# EAGLE library part RPI_CM3 (library mouser)
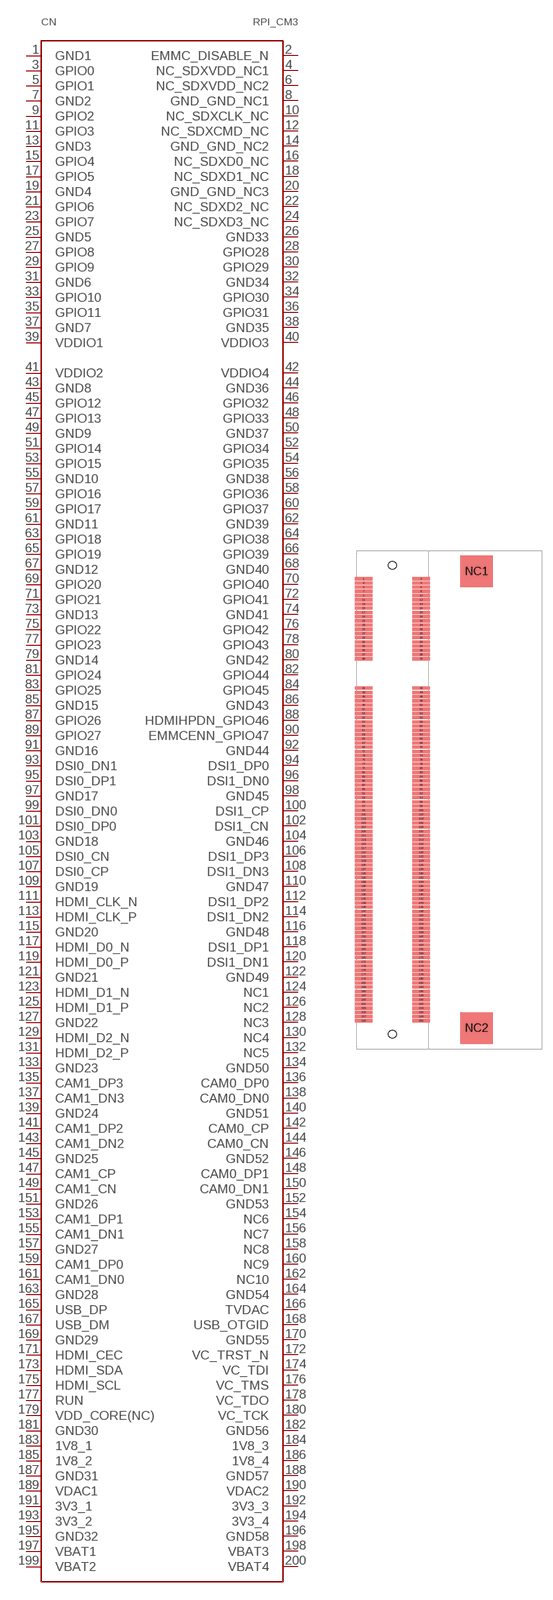
[diagram p0: symbol with the pads of DIMMSO_200PIN; footprint DIMMSO_200PIN]

Designator prefix CN

## RPI_CM3  [DIMMSO_200PIN]
1  GND1
2  EMMC_DISABLE_N
3  GPIO0
4  NC_SDXVDD_NC1
5  GPIO1
6  NC_SDXVDD_NC2
7  GND2
8  GND_GND_NC1
9  GPIO2
10  NC_SDXCLK_NC
11  GPIO3
12  NC_SDXCMD_NC
13  GND3
14  GND_GND_NC2
15  GPIO4
16  NC_SDXD0_NC
17  GPIO5
18  NC_SDXD1_NC
19  GND4
20  GND_GND_NC3
21  GPIO6
22  NC_SDXD2_NC
23  GPIO7
24  NC_SDXD3_NC
25  GND5
26  GND33
27  GPIO8
28  GPIO28
29  GPIO9
30  GPIO29
31  GND6
32  GND34
33  GPIO10
34  GPIO30
35  GPIO11
36  GPIO31
37  GND7
38  GND35
39  VDDIO1
40  VDDIO3
41  VDDIO2
42  VDDIO4
43  GND8
44  GND36
45  GPIO12
46  GPIO32
47  GPIO13
48  GPIO33
49  GND9
50  GND37
51  GPIO14
52  GPIO34
53  GPIO15
54  GPIO35
55  GND10
56  GND38
57  GPIO16
58  GPIO36
59  GPIO17
60  GPIO37
61  GND11
62  GND39
63  GPIO18
64  GPIO38
65  GPIO19
66  GPIO39
67  GND12
68  GND40
69  GPIO20
70  GPIO40
71  GPIO21
72  GPIO41
73  GND13
74  GND41
75  GPIO22
76  GPIO42
77  GPIO23
78  GPIO43
79  GND14
80  GND42
81  GPIO24
82  GPIO44
83  GPIO25
84  GPIO45
85  GND15
86  GND43
87  GPIO26
88  HDMIHPDN_GPIO46
89  GPIO27
90  EMMCENN_GPIO47
91  GND16
92  GND44
93  DSI0_DN1
94  DSI1_DP0
95  DSI0_DP1
96  DSI1_DN0
97  GND17
98  GND45
99  DSI0_DN0
100  DSI1_CP
101  DSI0_DP0
102  DSI1_CN
103  GND18
104  GND46
105  DSI0_CN
106  DSI1_DP3
107  DSI0_CP
108  DSI1_DN3
109  GND19
110  GND47
111  HDMI_CLK_N
112  DSI1_DP2
113  HDMI_CLK_P
114  DSI1_DN2
115  GND20
116  GND48
117  HDMI_D0_N
118  DSI1_DP1
119  HDMI_D0_P
120  DSI1_DN1
121  GND21
122  GND49
123  HDMI_D1_N
124  NC1  nc
125  HDMI_D1_P
126  NC2  nc
127  GND22
128  NC3  nc
129  HDMI_D2_N
130  NC4  nc
131  HDMI_D2_P
132  NC5  nc
133  GND23
134  GND50
135  CAM1_DP3
136  CAM0_DP0
137  CAM1_DN3
138  CAM0_DN0
139  GND24
140  GND51
141  CAM1_DP2
142  CAM0_CP
143  CAM1_DN2
144  CAM0_CN
145  GND25
146  GND52
147  CAM1_CP
148  CAM0_DP1
149  CAM1_CN
150  CAM0_DN1
151  GND26
152  GND53
153  CAM1_DP1
154  NC6  nc
155  CAM1_DN1
156  NC7  nc
157  GND27
158  NC8  nc
159  CAM1_DP0
160  NC9  nc
161  CAM1_DN0
162  NC10  nc
163  GND28
164  GND54
165  USB_DP
166  TVDAC
167  USB_DM
168  USB_OTGID
169  GND29
170  GND55
171  HDMI_CEC
172  VC_TRST_N
173  HDMI_SDA
174  VC_TDI
175  HDMI_SCL
176  VC_TMS
177  RUN
178  VC_TDO
179  VDD_CORE(NC)  nc
180  VC_TCK
181  GND30
182  GND56
183  1V8_1
184  1V8_3
185  1V8_2
186  1V8_4
187  GND31
188  GND57
189  VDAC1
190  VDAC2
191  3V3_1
192  3V3_3
193  3V3_2
194  3V3_4
195  GND32
196  GND58
197  VBAT1
198  VBAT3
199  VBAT2
200  VBAT4

## Footprint DIMMSO_200PIN (pad centres in mm)
smd 2.55 x 0.45: 1 -4.1,31.5; 2 4.1,31.5; 3 -4.1,30.9; 4 4.1,30.9; 5 -4.1,30.3; 6 4.1,30.3; 7 -4.1,29.7; 8 4.1,29.7; 9 -4.1,29.1; 10 4.1,29.1; 11 -4.1,28.5; 12 4.1,28.5; 13 -4.1,27.9; 14 4.1,27.9; 15 -4.1,27.3; 16 4.1,27.3; 17 -4.1,26.7; 18 4.1,26.7; 19 -4.1,26.1; 20 4.1,26.1; 21 -4.1,25.5; 22 4.1,25.5; 23 -4.1,24.9; 24 4.1,24.9; 25 -4.1,24.3; 26 4.1,24.3; 27 -4.1,23.7; 28 4.1,23.7; 29 -4.1,23.1; 30 4.1,23.1; 31 -4.1,22.5; 32 4.1,22.5; 33 -4.1,21.9; 34 4.1,21.9; 35 -4.1,21.3; 36 4.1,21.3; 37 -4.1,20.7; 38 4.1,20.7; 39 -4.1,20.1; 40 4.1,20.1; 41 -4.1,15.9; 42 4.1,15.9; 43 -4.1,15.3; 44 4.1,15.3; 45 -4.1,14.7; 46 4.1,14.7; 47 -4.1,14.1; 48 4.1,14.1; 49 -4.1,13.5; 50 4.1,13.5; 51 -4.1,12.9; 52 4.1,12.9; 53 -4.1,12.3; 54 4.1,12.3; 55 -4.1,11.7; 56 4.1,11.7; 57 -4.1,11.1; 58 4.1,11.1; 59 -4.1,10.5; 60 4.1,10.5; 61 -4.1,9.9; 62 4.1,9.9; 63 -4.1,9.3; 64 4.1,9.3; 65 -4.1,8.7; 66 4.1,8.7; 67 -4.1,8.1; 68 4.1,8.1; 69 -4.1,7.5; 70 4.1,7.5; 71 -4.1,6.9; 72 4.1,6.9; 73 -4.1,6.3; 74 4.1,6.3; 75 -4.1,5.7; 76 4.1,5.7; 77 -4.1,5.1; 78 4.1,5.1; 79 -4.1,4.5; 80 4.1,4.5; 81 -4.1,3.9; 82 4.1,3.9; 83 -4.1,3.3; 84 4.1,3.3; 85 -4.1,2.7; 86 4.1,2.7; 87 -4.1,2.1; 88 4.1,2.1; 89 -4.1,1.5; 90 4.1,1.5; 91 -4.1,0.9; 92 4.1,0.9; 93 -4.1,0.3; 94 4.1,0.3; 95 -4.1,-0.3; 96 4.1,-0.3; 97 -4.1,-0.9; 98 4.1,-0.9; 99 -4.1,-1.5; 100 4.1,-1.5; 101 -4.1,-2.1; 102 4.1,-2.1; 103 -4.1,-2.7; 104 4.1,-2.7; 105 -4.1,-3.3; 106 4.1,-3.3; 107 -4.1,-3.9; 108 4.1,-3.9; 109 -4.1,-4.5; 110 4.1,-4.5; 111 -4.1,-5.1; 112 4.1,-5.1; 113 -4.1,-5.7; 114 4.1,-5.7; 115 -4.1,-6.3; 116 4.1,-6.3; 117 -4.1,-6.9; 118 4.1,-6.9; 119 -4.1,-7.5; 120 4.1,-7.5; 121 -4.1,-8.1; 122 4.1,-8.1; 123 -4.1,-8.7; 124 4.1,-8.7; 125 -4.1,-9.3; 126 4.1,-9.3; 127 -4.1,-9.9; 128 4.1,-9.9; 129 -4.1,-10.5; 130 4.1,-10.5; 131 -4.1,-11.1; 132 4.1,-11.1; 133 -4.1,-11.7; 134 4.1,-11.7; 135 -4.1,-12.3; 136 4.1,-12.3; 137 -4.1,-12.9; 138 4.1,-12.9; 139 -4.1,-13.5; 140 4.1,-13.5; 141 -4.1,-14.1; 142 4.1,-14.1; 143 -4.1,-14.7; 144 4.1,-14.7; 145 -4.1,-15.3; 146 4.1,-15.3; 147 -4.1,-15.9; 148 4.1,-15.9; 149 -4.1,-16.5; 150 4.1,-16.5; 151 -4.1,-17.1; 152 4.1,-17.1; 153 -4.1,-17.7; 154 4.1,-17.7; 155 -4.1,-18.3; 156 4.1,-18.3; 157 -4.1,-18.9; 158 4.1,-18.9; 159 -4.1,-19.5; 160 4.1,-19.5; 161 -4.1,-20.1; 162 4.1,-20.1; 163 -4.1,-20.7; 164 4.1,-20.7; 165 -4.1,-21.3; 166 4.1,-21.3; 167 -4.1,-21.9; 168 4.1,-21.9; 169 -4.1,-22.5; 170 4.1,-22.5; 171 -4.1,-23.1; 172 4.1,-23.1; 173 -4.1,-23.7; 174 4.1,-23.7; 175 -4.1,-24.3; 176 4.1,-24.3; 177 -4.1,-24.9; 178 4.1,-24.9; 179 -4.1,-25.5; 180 4.1,-25.5; 181 -4.1,-26.1; 182 4.1,-26.1; 183 -4.1,-26.7; 184 4.1,-26.7; 185 -4.1,-27.3; 186 4.1,-27.3; 187 -4.1,-27.9; 188 4.1,-27.9; 189 -4.1,-28.5; 190 4.1,-28.5; 191 -4.1,-29.1; 192 4.1,-29.1; 193 -4.1,-29.7; 194 4.1,-29.7; 195 -4.1,-30.3; 196 4.1,-30.3; 197 -4.1,-30.9; 198 4.1,-30.9; 199 -4.1,-31.5; 200 4.1,-31.5
smd 4.6 x 4.5: NC1 12,32.55; NC2 12,-32.55
hole 1.1 at 0,-33.4
hole 1.1 at 0,33.4